# EAGLE library part SDCARD-HOLDER (library components)
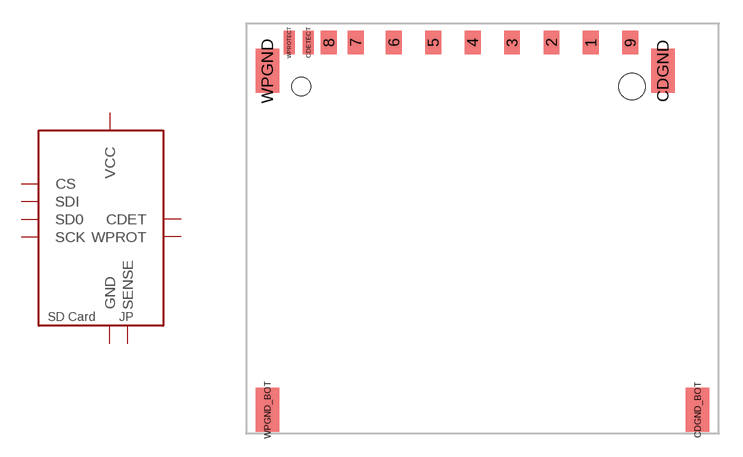
[diagram p30: symbol with the pads of SDHOLDER-9PIN; footprint SDHOLDER-9PIN]

Designator prefix JP

## SDCARD-HOLDER (DIGIKEY-PN: 732-3817-1-ND)  [SDHOLDER-9PIN]
1  CS
2  SDI
3  GND
4  VCC
5  SCK
6  GND
7  SD0
CDETECT  CDET
CDGND  SENSE
CDGND_BOT  SENSE
WPGND  SENSE
WPGND_BOT  SENSE
WPROTECT  WPROT

## Footprint SDHOLDER-9PIN (pad centres in mm)
smd 1 x 1.5: 1 6.875,1.8; 2 4.375,1.8; 3 1.875,1.8; 4 -0.625,1.8; 5 -3.125,1.8; 6 -5.625,1.8; 7 -8.05,1.8; 8 -9.75,1.8; 9 9.375,1.8
smd 0.7 x 1.5: CDETECT -11.05,1.8; WPROTECT -12.25,1.8
smd 1.5 x 2.8: CDGND 11.45,0; CDGND_BOT 13.65,-21.5; WPGND -13.65,0; WPGND_BOT -13.65,-21.5
hole 1.18 at -11.5,-1
hole 1.68 at 9.5,-1